# Altium footprint library Chip.PcbLib: 37 footprints (part 2 of 3)
Each footprint in its own frame and in the unit in brackets; x right, y up, seen from the top. Pads: shape width x height; smd on the part's side, far side on the other; paste and mask are expansions set on the pad; w line width, h text height; cw(c..) or ccw(c..) is an arc to the next point about the centre after c.
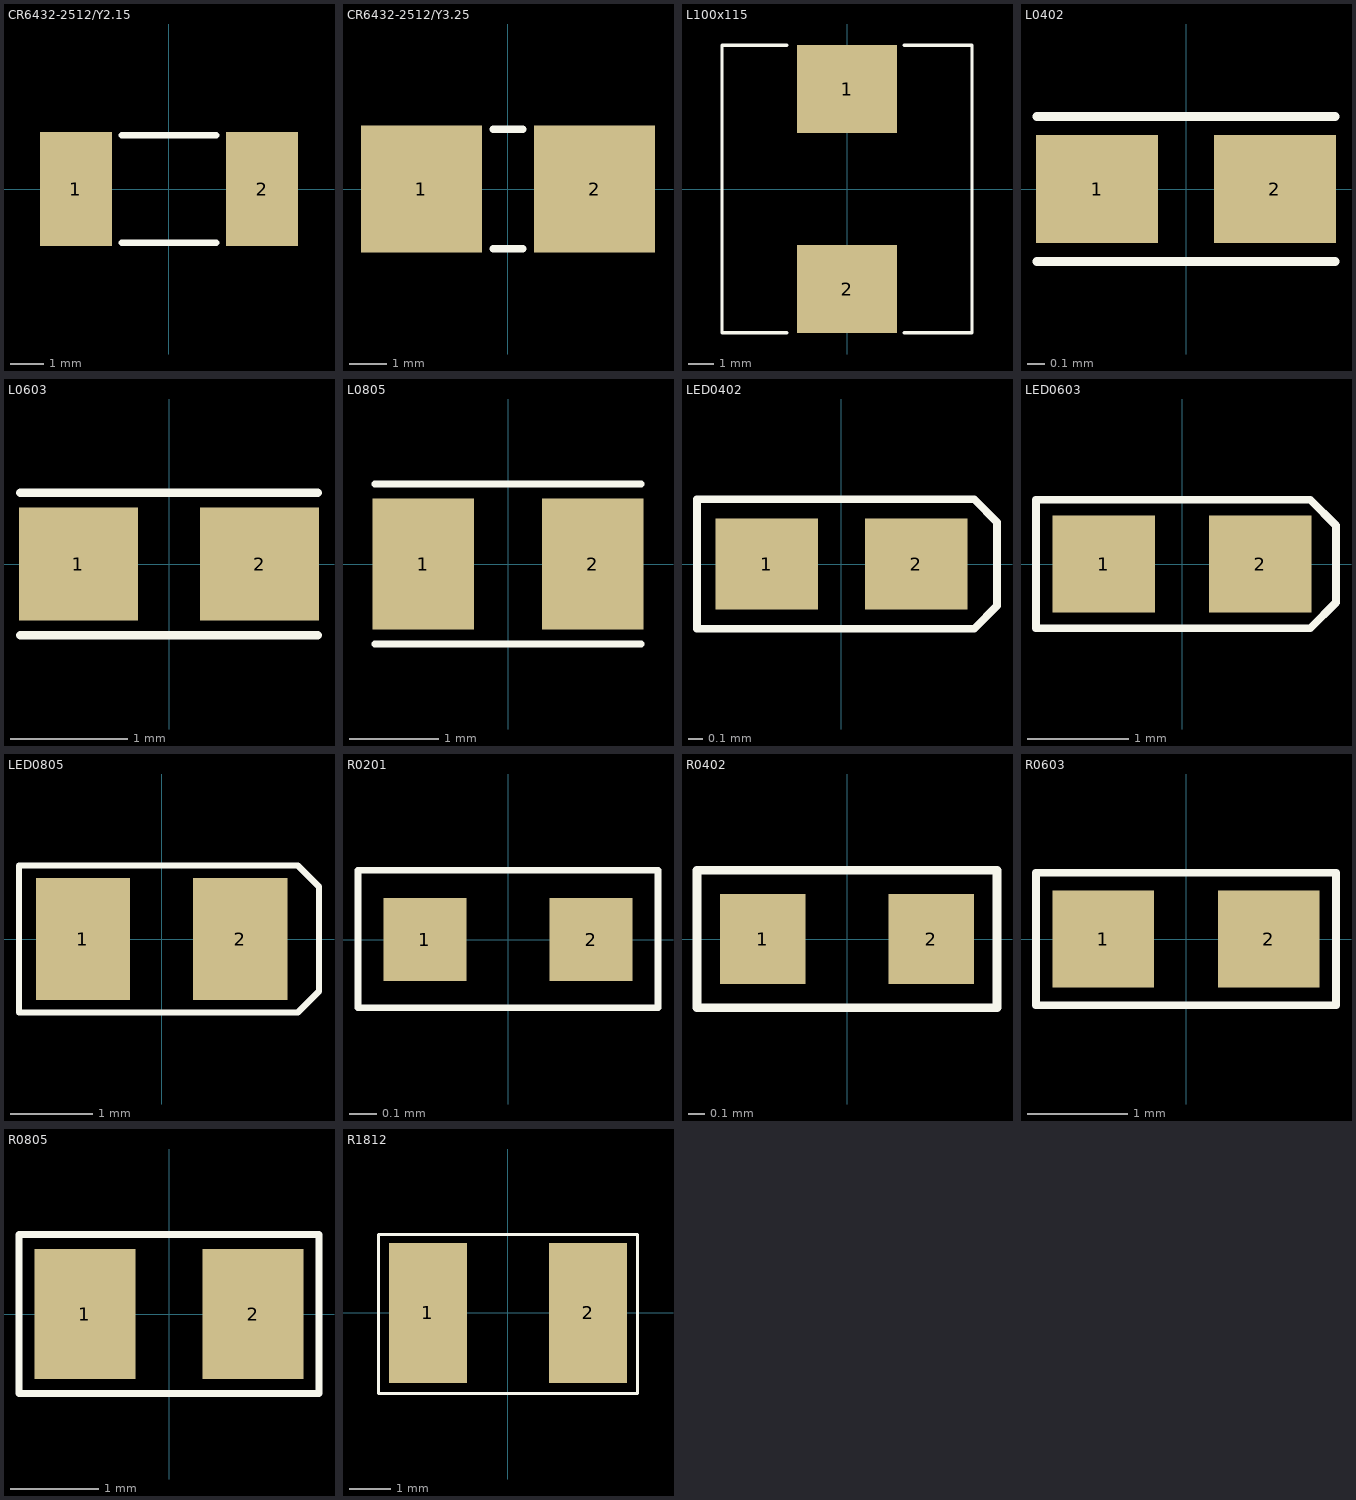
[diagram p1: the footprints below, top view; thin cyan lines are the x and y axes]

## CR6432-2512/Y2.15 [mm] "Chip Resistor; Body 6.4 x 3.2 mm (LxW typ)"
height 1.1
pads (2):
  rect 2.15x3.4 smd: 1(-2.775,0) 2(2.775,0)
Top Overlay:
  lines w0.2: -1.4,-1.6 1.4,-1.6 ; -1.4,1.6 1.4,1.6

## CR6432-2512/Y3.25 [mm] "Chip Resistor; Body 6.4 x 3.2 mm (LxW typ)"
height 1.1
pads (2):
  rect 3.25x3.4 smd: 1(-2.325,0) 2(2.325,0)
Top Overlay:
  lines w0.2: -0.4,-1.6 0.4,-1.6 ; -0.4,1.6 0.4,1.6

## L100x115 [mm] "10mm x 11.5mm,  Hight 4mm"
height 4
pads (2):
  rect 4x3.5 smd: 1(0,4) 2(0,-4)
Top Overlay:
  lines w0.102: -5,-5.75 -5,5.75 ; 5,-5.75 5,5.75
  lines w0.127: -5,-5.75 -2.413,-5.75 ; -5,5.75 -2.413,5.75 ; 2.286,-5.75 5,-5.75 ; 2.286,5.75 5,5.75

## L0402 [mm] "Chip Capacitor ; Body 1.1 x 0.5 mm (L x W )"
height 0.4
pads (2):
  rect 0.686x0.609 smd: 1(-0.5,0) 2(0.5,0)
Top Overlay:
  lines w0.051: -0.838,-0.406 0.838,-0.406 ; -0.838,0.406 0.838,0.406

## L0603 [mil] "Chip Inductor ; Body 1.6 x 0.8mm (L x W)"
height 27.95
pads (2):
  rect 40x38 smd: 1(-30.51,0) 2(30.51,0)
Top Overlay:
  lines w3: -50,-24 50,-24 ; -50,24 50,24

## L0805 [mil] "Chip Inductor; Body 2.0 x 1.3 mm (LxW typ)"
height 25.59
pads (2):
  rect 45x58 smd: 1(-37.5,0) 2(37.5,0)
Top Overlay:
  lines w3: -59.06,-35.43 59.06,-35.43 ; -59.06,35.43 59.06,35.43

## LED0402 [mm] "Chip Capacitor ; Body 1.1 x 0.5 mm (L x W )"
height 0.4
pads (2):
  rect 0.686x0.609 smd: 1(-0.5,0) 2(0.5,0)
Top Overlay:
  lines w0.051: -0.965,-0.432 -0.965,0.432 0.889,0.432 1.041,0.279 1.041,-0.279 0.889,-0.432 -0.965,-0.432

## LED0603 [mil] "Chip Inductor ; Body 1.6 x 0.8mm (L x W)"
height 27.95
pads (2):
  rect 40x38 smd: 1(-30.51,0) 2(30.51,0)
Top Overlay:
  lines w3: -57,-25 -57,25 50,25 60,15 60,-15 50,-25 -57,-25
3D body "LED0603(B).STEP": height 33.62, standoff 10, extent -31.89,-15.75 31.89,15.75

## LED0805 [mil] "Chip Inductor; Body 2.0 x 1.3 mm (LxW typ)"
height 25.59
pads (2):
  rect 45x58 smd: 1(-37.5,0) 2(37.5,0)
Top Overlay:
  lines w3: -68,-35 -68,35 65,35 75,25 75,-25 65,-35 -68,-35
3D body "LED0805(B).STEP": height 53.31, standoff 10, extent -38.76,-23.6 40.77,25.61

## LPCC-16 [mm]

## R0201 [mil] "Chip Resistor; Body 0.6 x 0.3 mm (LxW typ)"
height 11.81
pads (2):
  rect 12x12 smd: 1(-12,0) 2(12,0)
Top Overlay:
  lines w1: -21.65,-9.84 -21.65,10 21.65,10 21.65,-9.84 -21.65,-9.84
3D body "RESC0603(0201).STEP": height 5.91, standoff -5.91, extent -11.81,-5 11.81,5.24

## R0402 [mil] "Chip Capacitor, Body 1.1 x 0.5 mm (L x W)"
height 11.81
pads (2):
  rect 20x21 smd: 1(-19.68,0) 2(19.68,0)
Top Overlay:
  lines w2: -35,-16 -35,16 35,16 35,-16 -35,-16

## R0603 [mil] "Chip Re; Body 1.6 x 0.8 mm (LxW typ)"
height 33.46
pads (2):
  rect 40x38 smd: 1(-32.5,0) 2(32.5,0)
Top Overlay:
  lines w2.99: -59,-26 -59,26 59,26 59,-26 -59,-26

## R0805 [mil] "Chip Resistor; Body 2.0 x 1.3 mm (LxW typ)"
height 25.59
pads (2):
  rect 45x58 smd: 1(-37.5,0) 2(37.5,0)
Top Overlay:
  lines w3: -66.93,-35.43 66.93,-35.43 66.93,35.43 -66.93,35.43 -66.93,-35.43

## R1812 [mm] "Chip Resistor; Body 4.5 x 3.2 mm (LxW typ)"
height 1.35
pads (2):
  rect 1.9x3.4 smd: 1(-1.95,0) 2(1.95,0)
Top Overlay:
  lines w0.076: -3.15,-1.956 -3.15,1.905 3.15,1.905 3.15,-1.956 -3.15,-1.956

## SMD3225 [mm]